# Altium footprint library RESC100X50X40L25N.PcbLib: 1 footprints
Each footprint in its own frame and in the unit in brackets; x right, y up, seen from the top. Pads: shape width x height; smd on the part's side, far side on the other; paste and mask are expansions set on the pad; w line width, h text height; cw(c..) or ccw(c..) is an arc to the next point about the centre after c.
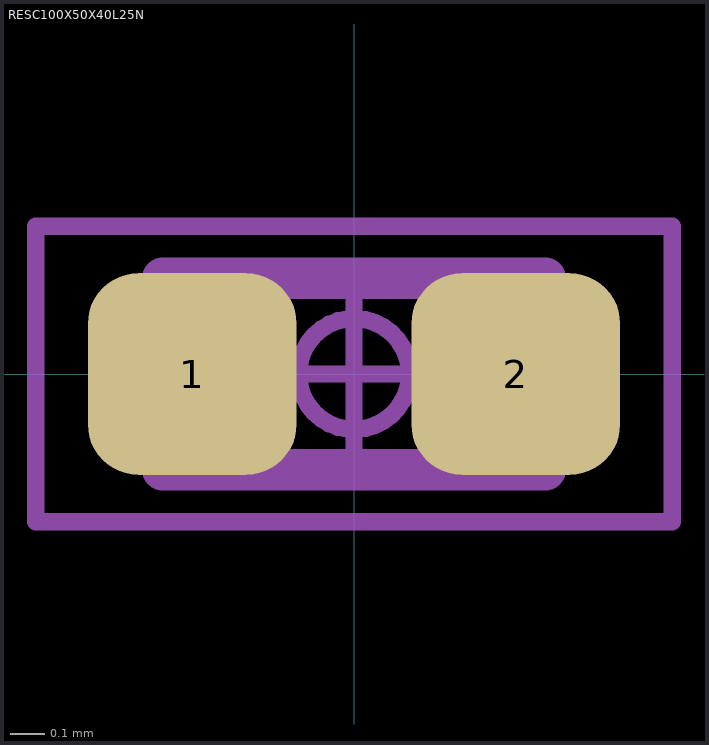
[diagram p0: the footprint, top view; thin cyan lines are the x and y axes]

## RESC100X50X40L25N [mm] "Resistor, Chip; 1.00 mm L X 0.50 mm W X 0.40 mm H Body"
height 0.4
pads (2):
  rrect50% 0.6x0.58 smd: 1(-0.465,0) 2(0.465,0)
Mechanical 3:
  lines w0.12: -0.55,-0.275 -0.55,0.275 0.55,0.275 0.55,-0.275 -0.55,-0.275
Mechanical 5:
  lines w0.025: -0.5,-0.25 -0.25,-0.25 -0.25,0.25 -0.5,0.25 ; -0.5,-0.25 -0.5,0.25 ; -0.5,-0.25 -0.5,0.25 ; -0.5,-0.25 0.5,-0.25 ; -0.5,0.25 0.5,0.25 ; 0.5,-0.25 0.5,0.25 ; 0.5,-0.25 0.25,-0.25 0.25,0.25 0.5,0.25 ; 0.5,-0.25 0.5,0.25
Mechanical 7:
  circle w0.05: c0,0 r0.159
  lines w0.05: -0.212,0 0.212,0 ; 0,-0.212 0,0.212 ; -0.914,-0.425 -0.914,0.425 0.914,0.425 0.914,-0.425 -0.914,-0.425
Mechanical 9:
  text "'.Designator'" at -5.436,-0.271 h1.02
3D body "RESC100X50X40L25.STEP": height 0.4, standoff 0, extent -0.5,-0.25 0.5,0.25
3D body: height 0.4, standoff 0, extent -0.914,-0.425 0.914,0.425